# Altium footprint library TSSOP28.PcbLib: 6 footprints
Each footprint in its own frame and in the unit in brackets; x right, y up, seen from the top. Pads: shape width x height; smd on the part's side, far side on the other; paste and mask are expansions set on the pad; w line width, h text height; cw(c..) or ccw(c..) is an arc to the next point about the centre after c.
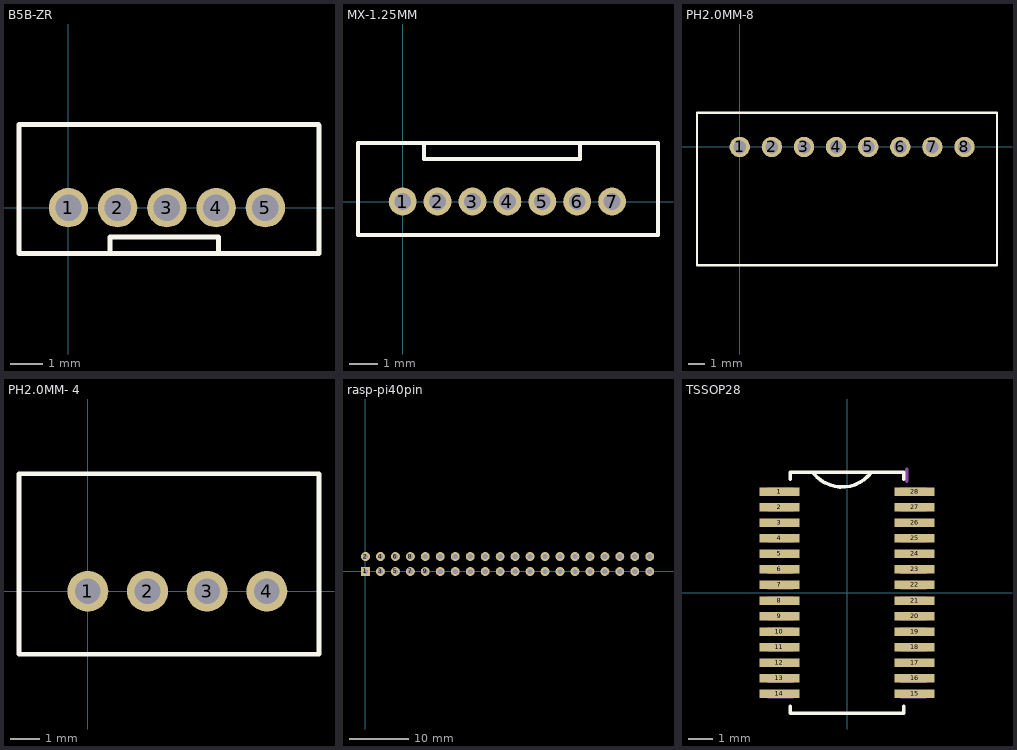
[diagram p0: the footprints below, top view; thin cyan lines are the x and y axes]

## B5B-ZR [mm] "SPS30 connector"
pads (5):
  round 1.2 hole 0.8: 1(0,0) 2(1.5,0) 3(3,0) 4(4.5,0) 5(6,0)
Top Overlay:
  lines w0.152: 0,2.54 6.096,2.54 ; 1.27,-1.397 1.27,-0.889 4.572,-0.889 4.572,-1.397 ; 7.62,2.54 -1.507,2.54 -1.507,-1.397 7.637,-1.397 ; 7.637,-1.4 7.637,2.5

## MX-1.25MM [mm] "CO2 & HCHO connector"
pads (7):
  round 1 hole 0.6: 1(0,0) 2(1.25,0) 3(2.5,0) 4(3.75,0) 5(5,0) 6(6.25,0) 7(7.5,0)
Top Overlay:
  lines w0.152: 0.762,2.1 0.762,1.524 6.35,1.524 6.35,2.1 ; -1.6,-1.2 -1.6,2.1 9.144,2.1 9.144,-1.2 -1.6,-1.2

## PH2.0MM-8 [mil] "E-INK connector"
pads (8):
  round 50 hole 31: 1(0,0) 2(78.74,0) 3(157.48,0) 4(236.22,0) 5(314.96,0) 6(393.7,0) 7(472.44,0) 8(551.18,0)
Top Overlay:
  lines w6: -105,-290 630.98,-290 630.98,83.74 -105,83.74 -105,-290
3D body: height 10, standoff 0, extent 551.18,0 561.18,10
3D body "c-292250-8-a-3d.stp": height 249.61, standoff -77.17, extent -85.79,-278.23 615,68.23

## PH2.0MM- 4 [mil] "TEMP/HUMIDIT connector"
pads (4):
  round 54 hole 34: 1(0,0) 2(78.74,0) 3(157.48,0) 4(236.22,0)
Top Overlay:
  lines w6: -90.89,-83 -90.89,155 305.11,155 305.11,-83 -90.89,-83
3D body "c-292132-4-b1-3d.stp": height 275.59, standoff -118.11, extent -87.91,-78.35 297.91,150

## rasp-pi40pin [mm]
pads (40):
  rect 1.5x1.5 hole 0.9: 1(0,0)
  round 1.5 hole 0.9: 2(0,2.54) 3(2.54,0) 4(2.54,2.54) 5(5.08,0) 6(5.08,2.54) 7(7.62,0) 8(7.62,2.54) 9(10.16,0) 10(10.16,2.54) 11(12.7,0) 12(12.7,2.54) 13(15.24,0) 14(15.24,2.54) 15(17.78,0) 16(17.78,2.54) 17(20.32,0) 18(20.32,2.54) 19(22.86,0) 20(22.86,2.54) 21(25.4,0) 22(25.4,2.54) 23(27.94,0) 24(27.94,2.54) 25(30.48,0) 26(30.48,2.54) 27(33.02,0) 28(33.02,2.54) 29(35.56,0) 30(35.56,2.54) 31(38.1,0) 32(38.1,2.54) 33(40.64,0) 34(40.64,2.54) 35(43.18,0) 36(43.18,2.54) 37(45.72,0) 38(45.72,2.54) 39(48.26,0) 40(48.26,2.54)
Bottom Overlay:
  lines w0.2: -1.27,-1.27 -1.27,3.81 49.657,3.81 49.657,-1.27 -1.27,-1.27
3D body "female_header_a-bl254-dg-z32d.stp": height 8.5, standoff -3.2, extent -1.395,-1.103 39.495,3.897
3D body "female_header_a-bl254-dg-z32d.stp": height 8.5, standoff -3.2, extent 8.765,-1.105 49.655,3.895

## TSSOP28 [mil]
pads (28):
  rect 66x14 smd: 1(-111,166.34) 2(-111,140.75) 3(-111,115.16) 4(-111,89.57) 5(-111,63.98) 6(-111,38.39) 7(-111,12.8) 8(-111,-12.8) 9(-111,-38.39) 10(-111,-63.98) 11(-111,-89.57) 12(-111,-115.16) 13(-111,-140.75) 14(-111,-166.34) 15(111,-166.34) 16(111,-140.75) 17(111,-115.16) 18(111,-89.57) 19(111,-63.98) 20(111,-38.39) 21(111,-12.8) 22(111,12.8) 23(111,38.39) 24(111,63.98) 25(111,89.57) 26(111,115.16) 27(111,140.75) 28(111,166.34)
Top Overlay:
  lines w6: -93.5,-186.44 -93.5,-198 93.5,-198 93.5,-186.44 ; -93.5,186.44 -93.5,198 93.5,198 93.5,186.44 ; -55.34,196.71 ccw(c-8.16,233.78) 40,198
Mechanical 13:
  lines w1: -130,-172.34 -88.5,-172.34 -88.5,-160.34 -130,-160.34 -130,-172.34 ; -130,-146.75 -88.5,-146.75 -88.5,-134.75 -130,-134.75 -130,-146.75 ; -130,-121.16 -88.5,-121.16 -88.5,-109.16 -130,-109.16 -130,-121.16 ; -130,-95.57 -88.5,-95.57 -88.5,-83.57 -130,-83.57 -130,-95.57 ; -130,-69.98 -88.5,-69.98 -88.5,-57.98 -130,-57.98 -130,-69.98 ; -130,-44.39 -88.5,-44.39 -88.5,-32.39 -130,-32.39 -130,-44.39 ; -130,-18.8 -88.5,-18.8 -88.5,-6.8 -130,-6.8 -130,-18.8 ; -130,6.8 -88.5,6.8 -88.5,18.8 -130,18.8 -130,6.8 ; -130,32.39 -88.5,32.39 -88.5,44.39 -130,44.39 -130,32.39 ; -130,57.98 -88.5,57.98 -88.5,69.98 -130,69.98 -130,57.98 ; -130,83.57 -88.5,83.57 -88.5,95.57 -130,95.57 -130,83.57 ; -130,109.16 -88.5,109.16 -88.5,121.16 -130,121.16 -130,109.16 ; -130,134.75 -88.5,134.75 -88.5,146.75 -130,146.75 -130,134.75 ; -130,160.34 -88.5,160.34 -88.5,172.34 -130,172.34 -130,160.34 ; 88.5,-172.34 130,-172.34 130,-160.34 88.5,-160.34 88.5,-172.34 ; 88.5,-146.75 130,-146.75 130,-134.75 88.5,-134.75 88.5,-146.75 ; 88.5,-121.16 130,-121.16 130,-109.16 88.5,-109.16 88.5,-121.16 ; 88.5,-95.57 130,-95.57 130,-83.57 88.5,-83.57 88.5,-95.57 ; 88.5,-69.98 130,-69.98 130,-57.98 88.5,-57.98 88.5,-69.98 ; 88.5,-44.39 130,-44.39 130,-32.39 88.5,-32.39 88.5,-44.39 ; 88.5,-18.8 130,-18.8 130,-6.8 88.5,-6.8 88.5,-18.8 ; 88.5,6.8 130,6.8 130,18.8 88.5,18.8 88.5,6.8 ; 88.5,32.39 130,32.39 130,44.39 88.5,44.39 88.5,32.39 ; 88.5,57.98 130,57.98 130,69.98 88.5,69.98 88.5,57.98 ; 88.5,83.57 130,83.57 130,95.57 88.5,95.57 88.5,83.57 ; 88.5,109.16 130,109.16 130,121.16 88.5,121.16 88.5,109.16 ; 88.5,134.75 130,134.75 130,146.75 88.5,146.75 88.5,134.75 ; 88.5,160.34 130,160.34 130,172.34 88.5,172.34 88.5,160.34
Mechanical 15:
  lines w6: 98.5,183.34 98.5,203
3D body "TSSOP28.step": height 44.69, standoff -0.39, extent -125.98,-190.94 125.99,190.95